# Altium schematic symbol library SCH - POWER - LINEAR VREG - AD ADP7104 FIXED.SchLib: 1 symbol
Pins are listed as number, name and electrical type; pins without a type are passive.

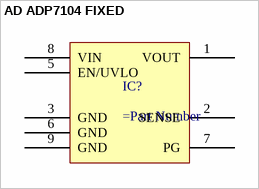
[diagram p0: symbol AD ADP7104 FIXED]

## AD ADP7104 FIXED
designator IC?
pins: 1 VOUT, 2 SENSE, 3 GND, 5 EN/UVLO, 6 GND, 7 PG, 8 VIN, 9 GND